# Altium integrated library MCU.IntLib: 6 symbols
Pins are listed as number, name and electrical type; pins without a type are passive.

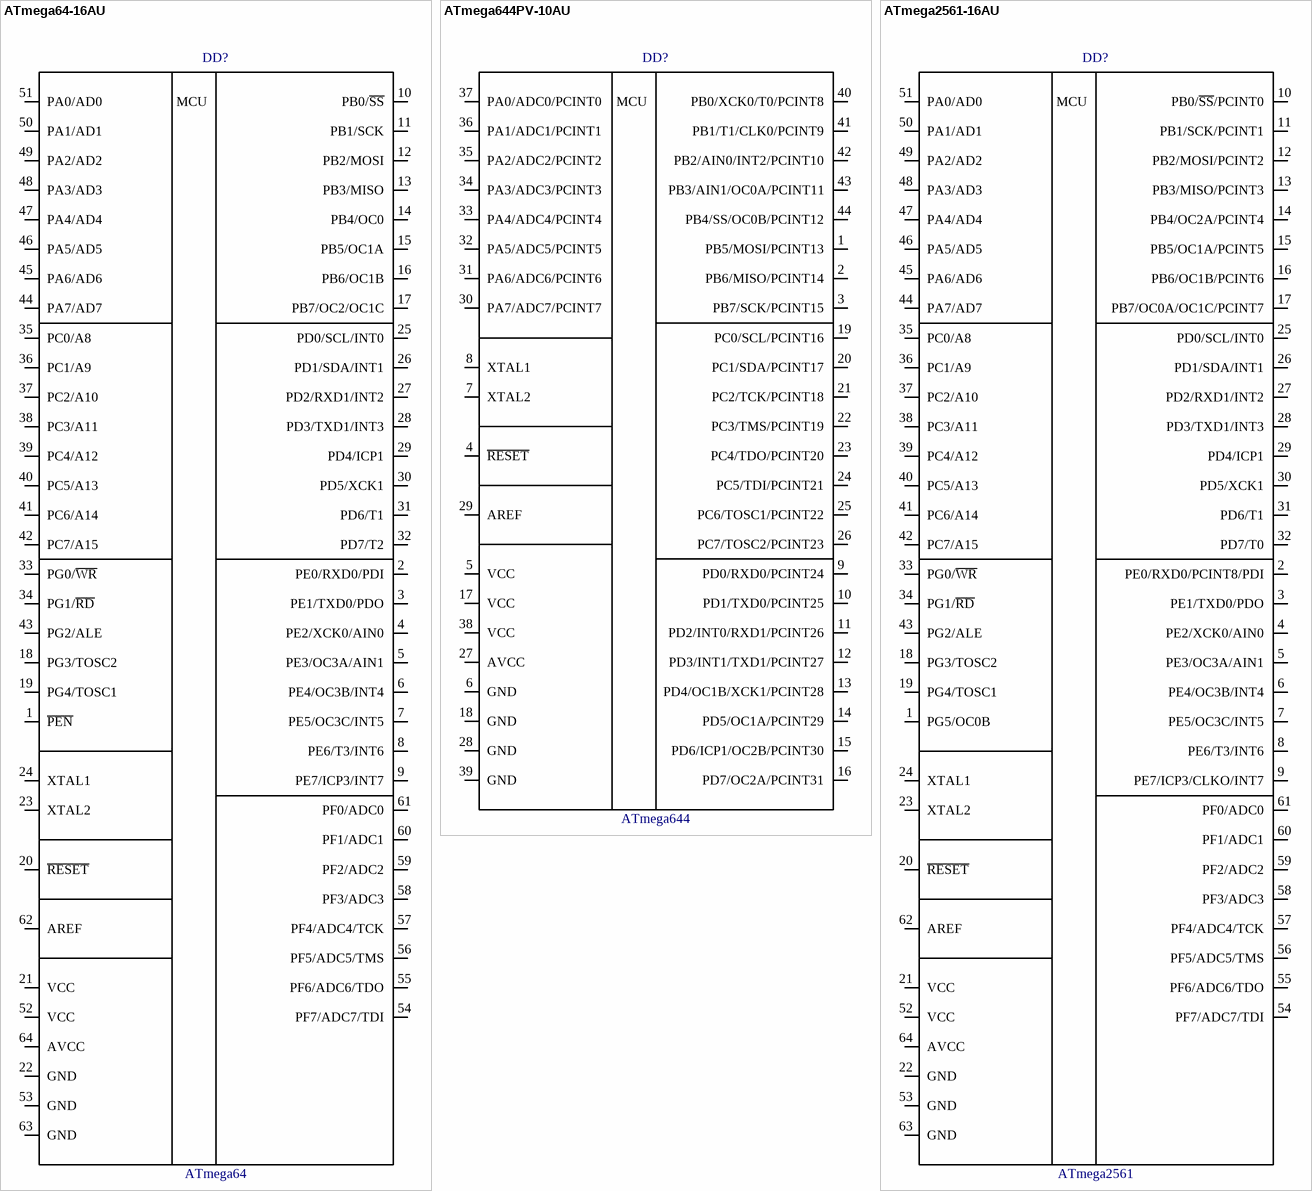
[diagram p0: symbols ATmega64-16AU to ATmega2561-16AU]

## ATmega64-16AU
designator DD?, comment ATmega64
8-bit AVR MCU
footprint TQFP-64 (TQFP, 64-Leads, Body 14,00x14,00mm, Pitch 0,80mm, IPC Low Density)
pins: 1 ~{PEN}, 2 PE0/RXD0/PDI, 3 PE1/TXD0/PDO, 4 PE2/XCK0/AIN0, 5 PE3/OC3A/AIN1, 6 PE4/OC3B/INT4, 7 PE5/OC3C/INT5, 8 PE6/T3/INT6, 9 PE7/ICP3/INT7, 10 PB0/~{SS}, 11 PB1/SCK, 12 PB2/MOSI, 13 PB3/MISO, 14 PB4/OC0, 15 PB5/OC1A, 16 PB6/OC1B, 17 PB7/OC2/OC1C, 18 PG3/TOSC2, 19 PG4/TOSC1, 20 ~{RESET} (power), 21 VCC (power), 22 GND (power), 23 XTAL2 (power), 24 XTAL1 (power), 25 PD0/SCL/INT0, 26 PD1/SDA/INT1, 27 PD2/RXD1/INT2, 28 PD3/TXD1/INT3, 29 PD4/ICP1, 30 PD5/XCK1, 31 PD6/T1, 32 PD7/T2, 33 PG0/~{WR}, 34 PG1/~{RD}, 35 PC0/A8, 36 PC1/A9, 37 PC2/A10, 38 PC3/A11, 39 PC4/A12, 40 PC5/A13, 41 PC6/A14, 42 PC7/A15, 43 PG2/ALE, 44 PA7/AD7, 45 PA6/AD6, 46 PA5/AD5, 47 PA4/AD4, 48 PA3/AD3, 49 PA2/AD2, 50 PA1/AD1, 51 PA0/AD0, 52 VCC (power), 53 GND (power), 54 PF7/ADC7/TDI, 55 PF6/ADC6/TDO, 56 PF5/ADC5/TMS, 57 PF4/ADC4/TCK, 58 PF3/ADC3, 59 PF2/ADC2, 60 PF1/ADC1, 61 PF0/ADC0, 62 AREF, 63 GND (power), 64 AVCC (power)
text: MCU

## ATmega644PV-10AU
designator DD?, comment ATmega644
8-bit AVR MCU
footprint TQFP-44 (TQFP, 44-Leads, Body 10,00x10,00mm, Pitch 0,80mm, IPC Low Density)
pins: 1 PB5/MOSI/PCINT13, 2 PB6/MISO/PCINT14, 3 PB7/SCK/PCINT15, 4 ~{RESET} (power), 5 VCC (power), 6 GND (power), 7 XTAL2 (power), 8 XTAL1 (power), 9 PD0/RXD0/PCINT24, 10 PD1/TXD0/PCINT25, 11 PD2/INT0/RXD1/PCINT26, 12 PD3/INT1/TXD1/PCINT27, 13 PD4/OC1B/XCK1/PCINT28, 14 PD5/OC1A/PCINT29, 15 PD6/ICP1/OC2B/PCINT30, 16 PD7/OC2A/PCINT31, 17 VCC (power), 18 GND (power), 19 PC0/SCL/PCINT16, 20 PC1/SDA/PCINT17, 21 PC2/TCK/PCINT18, 22 PC3/TMS/PCINT19, 23 PC4/TDO/PCINT20, 24 PC5/TDI/PCINT21, 25 PC6/TOSC1/PCINT22, 26 PC7/TOSC2/PCINT23, 27 AVCC (power), 28 GND (power), 29 AREF, 30 PA7/ADC7/PCINT7, 31 PA6/ADC6/PCINT6, 32 PA5/ADC5/PCINT5, 33 PA4/ADC4/PCINT4, 34 PA3/ADC3/PCINT3, 35 PA2/ADC2/PCINT2, 36 PA1/ADC1/PCINT1, 37 PA0/ADC0/PCINT0, 38 VCC (power), 39 GND (power), 40 PB0/XCK0/T0/PCINT8, 41 PB1/T1/CLK0/PCINT9, 42 PB2/AIN0/INT2/PCINT10, 43 PB3/AIN1/OC0A/PCINT11, 44 PB4/SS/OC0B/PCINT12
text: MCU

## ATmega2561-16AU
designator DD?, comment ATmega2561
8-bit AVR MCU
footprint TQFP-64 (TQFP, 64-Leads, Body 14,00x14,00mm, Pitch 0,80mm, IPC Low Density)
pins: 1 PG5/OC0B, 2 PE0/RXD0/PCINT8/PDI, 3 PE1/TXD0/PDO, 4 PE2/XCK0/AIN0, 5 PE3/OC3A/AIN1, 6 PE4/OC3B/INT4, 7 PE5/OC3C/INT5, 8 PE6/T3/INT6, 9 PE7/ICP3/CLKO/INT7, 10 PB0/~{SS}/PCINT0, 11 PB1/SCK/PCINT1, 12 PB2/MOSI/PCINT2, 13 PB3/MISO/PCINT3, 14 PB4/OC2A/PCINT4, 15 PB5/OC1A/PCINT5, 16 PB6/OC1B/PCINT6, 17 PB7/OC0A/OC1C/PCINT7, 18 PG3/TOSC2, 19 PG4/TOSC1, 20 ~{RESET} (power), 21 VCC (power), 22 GND (power), 23 XTAL2 (power), 24 XTAL1 (power), 25 PD0/SCL/INT0, 26 PD1/SDA/INT1, 27 PD2/RXD1/INT2, 28 PD3/TXD1/INT3, 29 PD4/ICP1, 30 PD5/XCK1, 31 PD6/T1, 32 PD7/T0, 33 PG0/~{WR}, 34 PG1/~{RD}, 35 PC0/A8, 36 PC1/A9, 37 PC2/A10, 38 PC3/A11, 39 PC4/A12, 40 PC5/A13, 41 PC6/A14, 42 PC7/A15, 43 PG2/ALE, 44 PA7/AD7, 45 PA6/AD6, 46 PA5/AD5, 47 PA4/AD4, 48 PA3/AD3, 49 PA2/AD2, 50 PA1/AD1, 51 PA0/AD0, 52 VCC (power), 53 GND (power), 54 PF7/ADC7/TDI, 55 PF6/ADC6/TDO, 56 PF5/ADC5/TMS, 57 PF4/ADC4/TCK, 58 PF3/ADC3, 59 PF2/ADC2, 60 PF1/ADC1, 61 PF0/ADC0, 62 AREF, 63 GND (power), 64 AVCC (power)
text: MCU

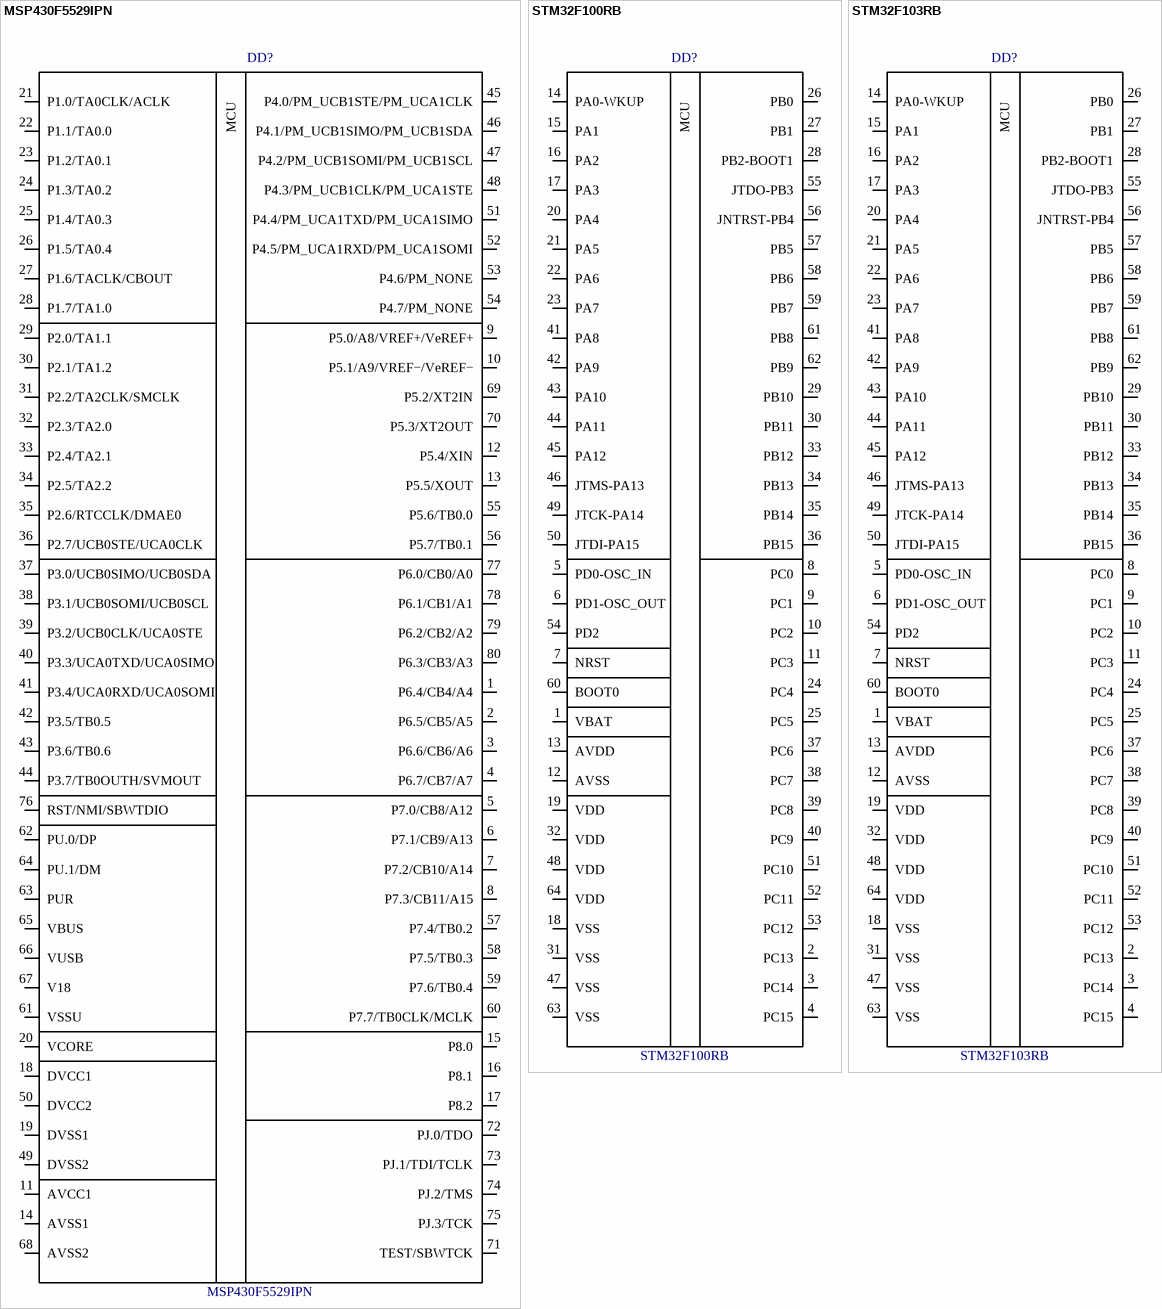
[diagram p1: symbols MSP430F5529IPN to STM32F103RB]

## MSP430F5529IPN
designator DD?
Mixed-Signal MCU; Manufacturer: Texas Instruments; 1Ccode: М00027849; 1Cgroup: 01010102; 1Carticle: 16436; Name: Микроконтролер MSP430F5529IPN; 1Cname: MSP430F5529IPN; 1CfullName: MSP430F5529IPN; PartNumber: MSP430F5529IPN; Case: LQFP-80; ComponentLink1Description: DatasheetLink; ComponentLink1URL: https://www.ti.com/lit/gpn/msp430f5529
footprint LQFP-80 (LQFP, 80-Leads, Body 12,00x12,00mm, Pitch 0,50mm, IPC Low Density)
pins: 1 P6.4/CB4/A4 (io), 2 P6.5/CB5/A5 (io), 3 P6.6/CB6/A6 (io), 4 P6.7/CB7/A7 (io), 5 P7.0/CB8/A12 (io), 6 P7.1/CB9/A13 (io), 7 P7.2/CB10/A14 (io), 8 P7.3/CB11/A15 (io), 9 P5.0/A8/VREF+/VeREF+ (io), 10 P5.1/A9/VREF−/VeREF− (io), 11 AVCC1 (power) "Analog power supply", 12 P5.4/XIN (io), 13 P5.5/XOUT (io), 14 AVSS1 (power) "Analog ground supply", 15 P8.0 (io), 16 P8.1 (io), 17 P8.2 (io), 18 DVCC1 (power), 19 DVSS1 (power), 20 VCORE (power), 21 P1.0/TA0CLK/ACLK (io), 22 P1.1/TA0.0 (io), 23 P1.2/TA0.1 (io), 24 P1.3/TA0.2 (io), 25 P1.4/TA0.3 (io), 26 P1.5/TA0.4 (io), 27 P1.6/TACLK/CBOUT (io), 28 P1.7/TA1.0 (io), 29 P2.0/TA1.1 (io), 30 P2.1/TA1.2 (io), 31 P2.2/TA2CLK/SMCLK (io), 32 P2.3/TA2.0 (io), 33 P2.4/TA2.1 (io), 34 P2.5/TA2.2 (io), 35 P2.6/RTCCLK/DMAE0 (io), 36 P2.7/UCB0STE/UCA0CLK (io), 37 P3.0/UCB0SIMO/UCB0SDA (io), 38 P3.1/UCB0SOMI/UCB0SCL (io), 39 P3.2/UCB0CLK/UCA0STE (io), 40 P3.3/UCA0TXD/UCA0SIMO (io), 41 P3.4/UCA0RXD/UCA0SOMI (io), 42 P3.5/TB0.5 (io), 43 P3.6/TB0.6 (io), 44 P3.7/TB0OUTH/SVMOUT (io), 45 P4.0/PM_UCB1STE/PM_UCA1CLK (io), 46 P4.1/PM_UCB1SIMO/PM_UCB1SDA (io), 47 P4.2/PM_UCB1SOMI/PM_UCB1SCL (io), 48 P4.3/PM_UCB1CLK/PM_UCA1STE (io), 49 DVSS2 (power), 50 DVCC2 (power), 51 P4.4/PM_UCA1TXD/PM_UCA1SIMO (io), 52 P4.5/PM_UCA1RXD/PM_UCA1SOMI (io), 53 P4.6/PM_NONE (io), 54 P4.7/PM_NONE (io), 55 P5.6/TB0.0 (io), 56 P5.7/TB0.1 (io), 57 P7.4/TB0.2 (io), 58 P7.5/TB0.3 (io), 59 P7.6/TB0.4 (io), 60 P7.7/TB0CLK/MCLK (io), 61 VSSU (power) "USB PHY ground supply", 62 PU.0/DP (io), 63 PUR (io) "USB pullup resistor pin (open drain)", 64 PU.1/DM (io), 65 VBUS (power) "USB LDO input", 66 VUSB (power) "USB LDO output", 67 V18 (power) "USB regulated power (internal use only, no external current loading)", 68 AVSS2 (power) "Analog ground supply", 69 P5.2/XT2IN (io), 70 P5.3/XT2OUT (io), 71 TEST/SBWTCK (io) "Test mode pin – selects 4-wire JTAG operation", 72 PJ.0/TDO (io), 73 PJ.1/TDI/TCLK (io), 74 PJ.2/TMS (io), 75 PJ.3/TCK (io), 76 RST/NMI/SBWTDIO (io) "Reset input, active low", 77 P6.0/CB0/A0 (io), 78 P6.1/CB1/A1 (io), 79 P6.2/CB2/A2 (io), 80 P6.3/CB3/A3 (io)
text: MCU

## STM32F100RB
designator DD?
ARM Cortex-M3 MCU
footprint LQFP-64 (LQFP, 64-Leads, Body 10,00x10,00mm, Pitch 0,50mm, IPC Low Density)
pins: 1 VBAT (power), 2 PC13 (io), 3 PC14 (io), 4 PC15 (io), 5 PD0-OSC_IN (io), 6 PD1-OSC_OUT (io), 7 NRST (io), 8 PC0 (io), 9 PC1 (io), 10 PC2 (io), 11 PC3 (io), 12 AVSS (power), 13 AVDD (power), 14 PA0-WKUP (io), 15 PA1 (io), 16 PA2 (io), 17 PA3 (io), 18 VSS (power), 19 VDD (power), 20 PA4 (io), 21 PA5 (io), 22 PA6 (io), 23 PA7 (io), 24 PC4 (io), 25 PC5 (io), 26 PB0 (io), 27 PB1 (io), 28 PB2-BOOT1 (io), 29 PB10 (io), 30 PB11 (io), 31 VSS (power), 32 VDD (power), 33 PB12 (io), 34 PB13 (io), 35 PB14 (io), 36 PB15 (io), 37 PC6 (io), 38 PC7 (io), 39 PC8 (io), 40 PC9 (io), 41 PA8 (io), 42 PA9 (io), 43 PA10 (io), 44 PA11 (io), 45 PA12 (io), 46 JTMS-PA13 (io), 47 VSS (power), 48 VDD (power), 49 JTCK-PA14 (io), 50 JTDI-PA15 (io), 51 PC10 (io), 52 PC11 (io), 53 PC12 (io), 54 PD2 (io), 55 JTDO-PB3 (io), 56 JNTRST-PB4 (io), 57 PB5 (io), 58 PB6 (io), 59 PB7 (io), 60 BOOT0 (power), 61 PB8 (io), 62 PB9 (io), 63 VSS (power), 64 VDD (power)
text: MCU

## STM32F103RB
designator DD?
ARM Cortex-M3 MCU
footprint LQFP-64 (LQFP, 64-Leads, Body 10,00x10,00mm, Pitch 0,50mm, IPC Low Density)
ibis STM32F103RB (Model Description)
pins: 1 VBAT (power), 2 PC13 (io), 3 PC14 (io), 4 PC15 (io), 5 PD0-OSC_IN (io), 6 PD1-OSC_OUT (io), 7 NRST (io), 8 PC0 (io), 9 PC1 (io), 10 PC2 (io), 11 PC3 (io), 12 AVSS (power), 13 AVDD (power), 14 PA0-WKUP (io), 15 PA1 (io), 16 PA2 (io), 17 PA3 (io), 18 VSS (power), 19 VDD (power), 20 PA4 (io), 21 PA5 (io), 22 PA6 (io), 23 PA7 (io), 24 PC4 (io), 25 PC5 (io), 26 PB0 (io), 27 PB1 (io), 28 PB2-BOOT1 (io), 29 PB10 (io), 30 PB11 (io), 31 VSS (power), 32 VDD (power), 33 PB12 (io), 34 PB13 (io), 35 PB14 (io), 36 PB15 (io), 37 PC6 (io), 38 PC7 (io), 39 PC8 (io), 40 PC9 (io), 41 PA8 (io), 42 PA9 (io), 43 PA10 (io), 44 PA11 (io), 45 PA12 (io), 46 JTMS-PA13 (io), 47 VSS (power), 48 VDD (power), 49 JTCK-PA14 (io), 50 JTDI-PA15 (io), 51 PC10 (io), 52 PC11 (io), 53 PC12 (io), 54 PD2 (io), 55 JTDO-PB3 (io), 56 JNTRST-PB4 (io), 57 PB5 (io), 58 PB6 (io), 59 PB7 (io), 60 BOOT0 (power), 61 PB8 (io), 62 PB9 (io), 63 VSS (power), 64 VDD (power)
text: MCU